# Altium integrated library Silicon Labs Sensors.IntLib: 8 symbols
Pins are listed as number, name and electrical type; pins without a type are passive.

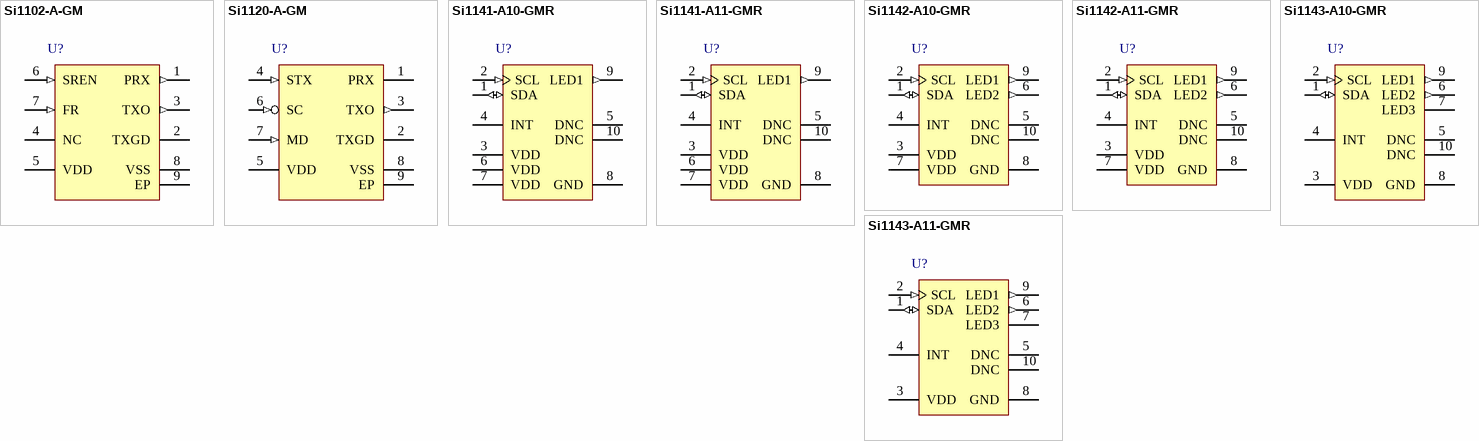
[diagram p0: symbols Si1102-A-GM to Si1143-A11-GMR]

## Si1102-A-GM
designator U?
Optical Proximity Detector, 8-Pin 3x3mm ODFN; Manufacturer: Silicon Labs; PartNumber: Si1102-A-GM; DatasheetVersion: rev1.0, Nov-2010; PackageVersion: 2010; PackageReference: ODFN-8; PackageDescription: 8-Pin DFN, 3 x 3 x 0.65 mm Body, 0.5 mm Pitch, IR Photodiode; Supplier 1: Digi-Key; Supplier Part Number 1: SI1102-A-GM-ND; Supplier 2: Mouser; Supplier Part Number 2: 634-SI1102-A-GM; ComponentLink1Description: Manufacturer URL; ComponentLink1URL: http://www.silabs.com; ComponentLink2Description: Datasheet; ComponentLink2URL: http://www.silabs.com/Support%20Documents/TechnicalDocs/Si1102.pdf
footprint ODFN-8 (SON, 8-Leads, Body 3x3mm, Pitch 0.65mm, Thermal Pad 1.6x2.4mm)
pins: 1 PRX (out), 2 TXGD (power), 3 TXO (out), 4 NC, 5 VDD (power), 6 SREN (in), 7 FR (in), 8 VSS (power), 9 EP (power)

## Si1120-A-GM
designator U?
Proximity / Ambient Light Sensor with PWM Out, 8-Pin 3x3mm ODFN; Manufacturer: Silicon Labs; PartNumber: Si1120-A-GM; DatasheetVersion: rev1.0, Aug-2010; PackageVersion: 2010; PackageReference: ODFN-8; PackageDescription: 8-Pin DFN, 3 x 3 x 0.65 mm Body, 0.5 mm Pitch, IR Photodiode; Supplier 1: Digi-Key; Supplier Part Number 1: SI1120-A-GM-ND; Supplier 2: Mouser; Supplier Part Number 2: 634-SI1120-A-GM; ComponentLink1Description: Manufacturer URL; ComponentLink1URL: http://www.silabs.com; ComponentLink2Description: Datasheet; ComponentLink2URL: http://www.silabs.com/Support%20Documents/TechnicalDocs/Si1120.pdf
footprint ODFN-8 (SON, 8-Leads, Body 3x3mm, Pitch 0.65mm, Thermal Pad 1.6x2.4mm)
pins: 1 PRX (hiz), 2 TXGD (power), 3 TXO (out), 4 STX (in), 5 VDD (power), 6 SC (in), 7 MD (in), 8 VSS (power), 9 EP (power)

## Si1141-A10-GMR
designator U?
Proximity / Ambient Light Sensor IC with I2C Interface, 1 LED Driver, -40 to 85 degC, 10-pin QFN, Tape and Reel; Manufacturer: Silicon Labs; PartNumber: Si1141-A10-GMR; Ambient Light Sensor: TRUE; Sub-Family: Optical Sensors; DatasheetVersion: Rev. 1.3; PackageReference: QFN-10; PackageDescription: 10-Pin Quad-Flat No-Leads Package, Body 2 x 2 mm, Pitch 0.5 mm; Supplier 1: Digi-Key; Supplier Part Number 1: 336-1968-2-ND; Supplier 2: Digi-Key; Supplier Part Number 2: 336-1968-1-ND; Supplier 3: Digi-Key; Supplier Part Number 3: 336-1968-6-ND; Supplier 4: Mouser; Supplier Part Number 4: 634-SI1141-A10-GMR; Output Type: I2C; Packing: Tape and Reel; Mounting Technology: Surface Mount; Code_JEDEC: MO-220; Code_IPC: J-STD-020; ComponentLink1Description: Manufacturer URL; ComponentLink1URL: http://www.silabs.com; ComponentLink2Description: Datasheet; ComponentLink2URL: http://www.silabs.com/Support%20Documents/TechnicalDocs/Si114x.pdf; ComponentLink3Description: Package Specification; ComponentLink3URL: http://www.silabs.com/Support%20Documents/TechnicalDocs/Si114x.pdf
footprint SLAB-QFN-10_V (QFN, 10-Leads, Body 2x2mm, Pitch 0.5mm)
pins: 1 SDA (io) "I2C Data.", 2 SCL (in) "I2C Clock.", 3 VDD (power) "Power Supply. Voltage source.", 4 INT (oc) "Interrupt Output. Open-drain interrupt output pin. Must be at logic level high during power-up sequence to enable low power operation.", 5 DNC "Do Not Connect. This pin is electrically connected to an internal Si1141 node. It should remain unconnected.", 6 VDD (power) "Power Supply. Voltage source.", 7 VDD (power) "Power Supply. Voltage source.", 8 GND (power) "Ground. Reference voltage.", 9 LED1 (out) "LED1 Output. Programmable constant current sink normally connected to an infrared LED cathode.", 10 DNC "Do Not Connect. This pin is electrically connected to an internal Si1141 node. It should remain unconnected."

## Si1141-A11-GMR
designator U?
Proximity / Ambient Light Sensor IC with I2C Interface, 1 LED Driver, -40 to 85 degC, 10-pin QFN, Tape and Reel; Manufacturer: Silicon Labs; PartNumber: Si1141-A11-GMR; Ambient Light Sensor: TRUE; Sub-Family: Optical Sensors; DatasheetVersion: Rev. 1.3; PackageReference: QFN-10; PackageDescription: 10-Pin Quad-Flat No-Leads Package, Body 2 x 2 mm, Pitch 0.5 mm; Supplier 1: Digi-Key; Supplier Part Number 1: 336-2199-2-ND; Supplier 2: Digi-Key; Supplier Part Number 2: 336-2199-1-ND; Supplier 3: Digi-Key; Supplier Part Number 3: 336-2199-6-ND; Supplier 4: Mouser; Supplier Part Number 4: 634-SI1141-A11-GMR; Output Type: I2C; Packing: Tape and Reel; Mounting Technology: Surface Mount; Code_JEDEC: MO-220; Code_IPC: J-STD-020; ComponentLink1Description: Manufacturer URL; ComponentLink1URL: http://www.silabs.com; ComponentLink2Description: Datasheet; ComponentLink2URL: http://www.silabs.com/Support%20Documents/TechnicalDocs/Si114x.pdf; ComponentLink3Description: Package Specification; ComponentLink3URL: http://www.silabs.com/Support%20Documents/TechnicalDocs/Si114x.pdf
footprint SLAB-QFN-10_V (QFN, 10-Leads, Body 2x2mm, Pitch 0.5mm)
pins: 1 SDA (io) "I2C Data.", 2 SCL (in) "I2C Clock.", 3 VDD (power) "Power Supply. Voltage source.", 4 INT (oc) "Interrupt Output. Open-drain interrupt output pin. Must be at logic level high during power-up sequence to enable low power operation.", 5 DNC "Do Not Connect. This pin is electrically connected to an internal Si1141 node. It should remain unconnected.", 6 VDD (power) "Power Supply. Voltage source.", 7 VDD (power) "Power Supply. Voltage source.", 8 GND (power) "Ground. Reference voltage.", 9 LED1 (out) "LED1 Output. Programmable constant current sink normally connected to an infrared LED cathode.", 10 DNC "Do Not Connect. This pin is electrically connected to an internal Si1141 node. It should remain unconnected."

## Si1142-A10-GMR
designator U?
Proximity / Ambient Light Sensor IC with I2C Interface, 2 LED Drivers, -40 to 85 degC, 10-pin QFN, Tape and Reel; Manufacturer: Silicon Labs; PartNumber: Si1142-A10-GMR; Ambient Light Sensor: TRUE; Sub-Family: Optical Sensors; DatasheetVersion: Rev. 1.3; PackageReference: QFN-10; PackageDescription: 10-Pin Quad-Flat No-Leads Package, Body 2 x 2 mm, Pitch 0.5 mm; Supplier 1: Digi-Key; Supplier Part Number 1: 336-1969-2-ND; Supplier 2: Digi-Key; Supplier Part Number 2: 336-1969-1-ND; Supplier 3: Digi-Key; Supplier Part Number 3: 336-1969-6-ND; Supplier 4: Mouser; Supplier Part Number 4: 634-SI1142-A10-GMR; Output Type: I2C; Packing: Tape and Reel; Mounting Technology: Surface Mount; Code_JEDEC: MO-220; Code_IPC: J-STD-020; ComponentLink1Description: Manufacturer URL; ComponentLink1URL: http://www.silabs.com; ComponentLink2Description: Datasheet; ComponentLink2URL: http://www.silabs.com/Support%20Documents/TechnicalDocs/Si114x.pdf; ComponentLink3Description: Package Specification; ComponentLink3URL: http://www.silabs.com/Support%20Documents/TechnicalDocs/Si114x.pdf
footprint SLAB-QFN-10_V (QFN, 10-Leads, Body 2x2mm, Pitch 0.5mm)
pins: 1 SDA (io) "I2C Data.", 2 SCL (in) "I2C Clock.", 3 VDD (power) "Power Supply. Voltage source.", 4 INT (oc) "Interrupt Output. Open-drain interrupt output pin. Must be at logic level high during power-up sequence to enable low power operation.", 5 DNC "Do Not Connect. This pin is electrically connected to an internal Si1142 node. It should remain unconnected.", 6 LED2 (out) "LED2 Output. Programmable constant current sink normally connected to an infrared LED cathode.", 7 VDD (power) "Power Supply. Voltage source.", 8 GND (power) "Ground. Reference voltage.", 9 LED1 (out) "LED1 Output. Programmable constant current sink normally connected to an infrared LED cathode.", 10 DNC "Do Not Connect. This pin is electrically connected to an internal Si1142 node. It should remain unconnected."

## Si1142-A11-GMR
designator U?
Proximity / Ambient Light Sensor IC with I2C Interface, 2 LED Drivers, -40 to 85 degC, 10-pin QFN, Tape and Reel; Manufacturer: Silicon Labs; PartNumber: Si1142-A11-GMR; Ambient Light Sensor: TRUE; Sub-Family: Optical Sensors; DatasheetVersion: Rev. 1.3; PackageReference: QFN-10; PackageDescription: 10-Pin Quad-Flat No-Leads Package, Body 2 x 2 mm, Pitch 0.5 mm; Supplier 1: Digi-Key; Supplier Part Number 1: 336-2200-2-ND; Supplier 2: Digi-Key; Supplier Part Number 2: 336-2200-1-ND; Supplier 3: Digi-Key; Supplier Part Number 3: 336-2200-6-ND; Supplier 4: Mouser; Supplier Part Number 4: 634-SI1142-A11-GMR; Output Type: I2C; Packing: Tape and Reel; Mounting Technology: Surface Mount; Code_JEDEC: MO-220; Code_IPC: J-STD-020; ComponentLink1Description: Manufacturer URL; ComponentLink1URL: http://www.silabs.com; ComponentLink2Description: Datasheet; ComponentLink2URL: http://www.silabs.com/Support%20Documents/TechnicalDocs/Si114x.pdf; ComponentLink3Description: Package Specification; ComponentLink3URL: http://www.silabs.com/Support%20Documents/TechnicalDocs/Si114x.pdf
footprint SLAB-QFN-10_V (QFN, 10-Leads, Body 2x2mm, Pitch 0.5mm)
pins: 1 SDA (io) "I2C Data.", 2 SCL (in) "I2C Clock.", 3 VDD (power) "Power Supply. Voltage source.", 4 INT (oc) "Interrupt Output. Open-drain interrupt output pin. Must be at logic level high during power-up sequence to enable low power operation.", 5 DNC "Do Not Connect. This pin is electrically connected to an internal Si1142 node. It should remain unconnected.", 6 LED2 (out) "LED2 Output. Programmable constant current sink normally connected to an infrared LED cathode.", 7 VDD (power) "Power Supply. Voltage source.", 8 GND (power) "Ground. Reference voltage.", 9 LED1 (out) "LED1 Output. Programmable constant current sink normally connected to an infrared LED cathode.", 10 DNC "Do Not Connect. This pin is electrically connected to an internal Si1142 node. It should remain unconnected."

## Si1143-A10-GMR
designator U?
Proximity / Ambient Light Sensor IC with I2C Interface, 3 LED Drivers, -40 to 85 degC, 10-pin QFN, Tape and Reel; Manufacturer: Silicon Labs; PartNumber: Si1143-A10-GMR; Ambient Light Sensor: TRUE; Sub-Family: Optical Sensors; DatasheetVersion: Rev. 1.3; PackageReference: QFN-10; PackageDescription: 10-Pin Quad-Flat No-Leads Package, Body 2 x 2 mm, Pitch 0.5 mm; Supplier 1: Digi-Key; Supplier Part Number 1: 336-1970-2-ND; Supplier 2: Digi-Key; Supplier Part Number 2: 336-1970-1-ND; Supplier 3: Digi-Key; Supplier Part Number 3: 336-1970-6-ND; Supplier 4: Mouser; Supplier Part Number 4: 634-SI1143-A10-GMR; Output Type: I2C; Packing: Tape and Reel; Mounting Technology: Surface Mount; Code_JEDEC: MO-220; Code_IPC: J-STD-020; ComponentLink1Description: Manufacturer URL; ComponentLink1URL: http://www.silabs.com; ComponentLink2Description: Datasheet; ComponentLink2URL: http://www.silabs.com/Support%20Documents/TechnicalDocs/Si114x.pdf; ComponentLink3Description: Package Specification; ComponentLink3URL: http://www.silabs.com/Support%20Documents/TechnicalDocs/Si114x.pdf
footprint SLAB-QFN-10_V (QFN, 10-Leads, Body 2x2mm, Pitch 0.5mm)
pins: 1 SDA (io) "I2C Data.", 2 SCL (in) "I2C Clock.", 3 VDD (power) "Power Supply. Voltage source.", 4 INT (oc) "Interrupt Output. Open-drain interrupt output pin. Must be at logic level high during power-up sequence to enable low power operation.", 5 DNC "Do Not Connect. This pin is electrically connected to an internal Si1143 node. It should remain unconnected.", 6 LED2 (out) "LED2 Output. Programmable constant current sink normally connected to an infrared LED cathode.", 7 LED3 "LED3 Output. Programmable constant current sink normally connected to an infrared LED cathode. If VLED < (VDD + 0.5 V), a 47 kohm pull-up resistor from LED3 to VDD is needed for proper operation. Connect directly to VDD when (See Datasheet)", 8 GND (power) "Ground. Reference voltage.", 9 LED1 (out) "LED1 Output. Programmable constant current sink normally connected to an infrared LED cathode.", 10 DNC "Do Not Connect. This pin is electrically connected to an internal Si1143 node. It should remain unconnected."

## Si1143-A11-GMR
designator U?
Proximity / Ambient Light Sensor IC with I2C Interface, 3 LED Drivers, -40 to 85 degC, 10-pin QFN, Tape and Reel; Manufacturer: Silicon Labs; PartNumber: Si1143-A11-GMR; Ambient Light Sensor: TRUE; Sub-Family: Optical Sensors; DatasheetVersion: Rev. 1.3; PackageReference: QFN-10; PackageDescription: 10-Pin Quad-Flat No-Leads Package, Body 2 x 2 mm, Pitch 0.5 mm; Supplier 1: Digi-Key; Supplier Part Number 1: 336-2201-2-ND; Supplier 2: Digi-Key; Supplier Part Number 2: 336-2201-1-ND; Supplier 3: Digi-Key; Supplier Part Number 3: 336-2201-6-ND; Supplier 4: Mouser; Supplier Part Number 4: 634-SI1143-A11-GMR; Output Type: I2C; Packing: Tape and Reel; Mounting Technology: Surface Mount; Code_JEDEC: MO-220; Code_IPC: J-STD-020; ComponentLink1Description: Manufacturer URL; ComponentLink1URL: http://www.silabs.com; ComponentLink2Description: Datasheet; ComponentLink2URL: http://www.silabs.com/Support%20Documents/TechnicalDocs/Si114x.pdf; ComponentLink3Description: Package Specification; ComponentLink3URL: http://www.silabs.com/Support%20Documents/TechnicalDocs/Si114x.pdf
footprint SLAB-QFN-10_V (QFN, 10-Leads, Body 2x2mm, Pitch 0.5mm)
pins: 1 SDA (io) "I2C Data.", 2 SCL (in) "I2C Clock.", 3 VDD (power) "Power Supply. Voltage source.", 4 INT (oc) "Interrupt Output. Open-drain interrupt output pin. Must be at logic level high during power-up sequence to enable low power operation.", 5 DNC "Do Not Connect. This pin is electrically connected to an internal Si1143 node. It should remain unconnected.", 6 LED2 (out) "LED2 Output. Programmable constant current sink normally connected to an infrared LED cathode.", 7 LED3 "LED3 Output. Programmable constant current sink normally connected to an infrared LED cathode. If VLED < (VDD + 0.5 V), a 47 kohm pull-up resistor from LED3 to VDD is needed for proper operation. Connect directly to VDD when (See Datasheet)", 8 GND (power) "Ground. Reference voltage.", 9 LED1 (out) "LED1 Output. Programmable constant current sink normally connected to an infrared LED cathode.", 10 DNC "Do Not Connect. This pin is electrically connected to an internal Si1143 node. It should remain unconnected."